# EAGLE library part LT1017 (library linear_STE)
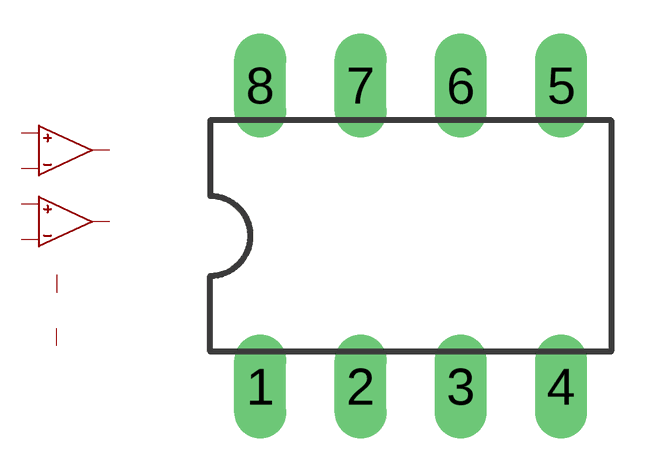
[diagram p0: symbol with the pads of DIL08; footprint DIL08]

Designator prefix -; gates A=COMPARATOR B=COMPARATOR SUP=SUPPLY

## LT1017CN8  [DIL08]
1  A:OUT  out
2  A:INN  in
3  A:INP  in
4  SUP:VSS  sup
5  B:INP  in
6  B:INN  in
7  B:OUT  out
8  SUP:VCC  sup

## Footprint DIL08 (pad centres in mm)
Dual In Line Package
drill 0.813 long: 1 -3.81,-3.81; 2 -1.27,-3.81; 3 1.27,-3.81; 4 3.81,-3.81; 5 3.81,3.81; 6 1.27,3.81; 7 -1.27,3.81; 8 -3.81,3.81